# EAGLE library part QUECTEL-L7X (library X893)
L70 L76 L70 Hardware Design <http://www.quectel.com/UploadImage/Downlad/Quectel_L70_Hardware_Design_V2.1.pdf> L76 Hardware Design <http://www.quectel.com/UploadImage/Downlad/Quectel_L76_Hardware_Design_V1.2.pdf>
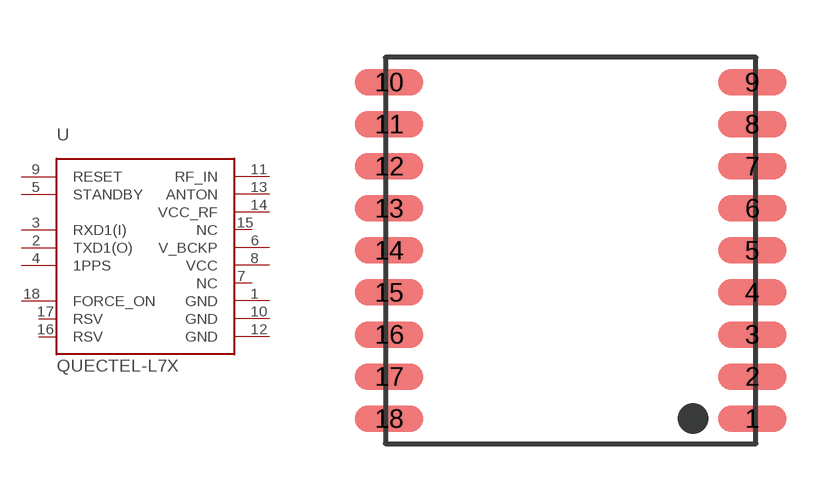
[diagram p216: symbol with the pads of MAX-M8-L7X; footprint MAX-M8-L7X]

Designator prefix U

## QUECTEL-L7X  [MAX-M8-L7X]
1  GND  pwr
2  TXD1(O)  out
3  RXD1(I)  in
4  1PPS  out
5  STANDBY  in
6  V_BCKP  pas
7  NC  nc
8  VCC  pwr
9  RESET  in
10  GND  pwr
11  RF_IN  pas
12  GND  pwr
13  ANTON  out
14  VCC_RF  pas
15  NC  nc
16  RSV  nc
17  RSV  nc
18  FORCE_ON  in

## Footprint MAX-M8-L7X (pad centres in mm)
smd 1.8 x 0.7: 1 4.75,-4.4; 2 4.75,-3.3; 3 4.75,-2.2; 4 4.75,-1.1; 5 4.75,0; 6 4.75,1.1; 7 4.75,2.2; 8 4.75,3.3; 9 4.75,4.4; 10 -4.75,4.4; 11 -4.75,3.3; 12 -4.75,2.2; 13 -4.75,1.1; 14 -4.75,0; 15 -4.75,-1.1; 16 -4.75,-2.2; 17 -4.75,-3.3; 18 -4.75,-4.4